# Altium integrated library AMS1117-3.3.IntLib: 1 symbol
Pins are listed as number, name and electrical type; pins without a type are passive.

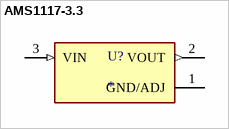
[diagram p0: symbol AMS1117-3.3]

## AMS1117-3.3
designator U?
LDO Voltage Regulators 800MA LDO LINEAR REG; MF: ams AG; MP: AMS1117-3.3; SnapEDA_Link: https://www.snapeda.com/parts/AMS1117-3.3/ams/view-part/?ref=snap; Package: SOT-223 Seeed Technology; Value: *; Check_prices: https://www.snapeda.com/parts/AMS1117-3.3/ams/view-part/?ref=eda
footprint SOT229P700X180-4N
pins: 1 GND/ADJ (power), 2 VOUT (out), 3 VIN (in)